# EAGLE library part A-UNO (library digital-toy)
Arduino/Genuino Uno
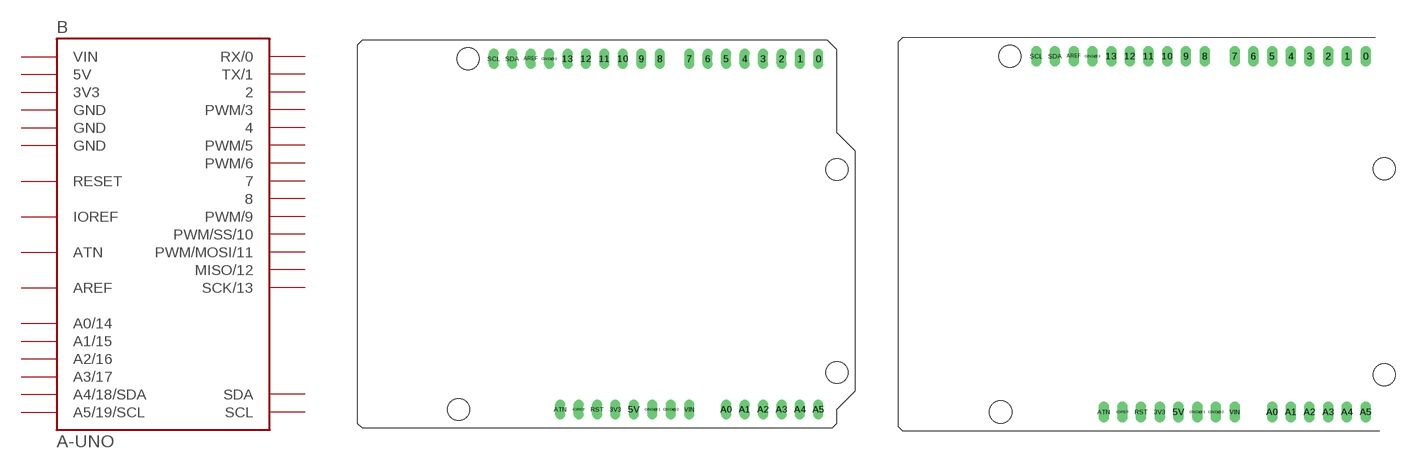
[diagram p49: symbol with the pads of A-UNO; footprints A-UNO, A-UNO_LEFT]

Designator prefix B

## A-UNO  [A-UNO]
0  RX/0
1  TX/1
2  2
3  PWM/3
3V3  3V3  pwr
4  4
5  PWM/5
5V  5V  pwr
6  PWM/6
7  7
8  8
9  PWM/9
10  PWM/SS/10
11  PWM/MOSI/11
12  MISO/12
13  SCK/13
A0  A0/14
A1  A1/15
A2  A2/16
A3  A3/17
A4  A4/18/SDA
A5  A5/19/SCL
AREF  AREF  pwr
ATN  ATN
GND@1  GND  pwr
GND@2  GND  pwr
GND@3  GND  pwr
IOREF  IOREF  pwr
RST  RESET
SCL  SCL
SDA  SDA
VIN  VIN  pwr

## A-UNO-L  [A-UNO_LEFT]
Pads as for A-UNO

## A-UNO-TP  [A-UNO_TP]
Pads as for A-UNO

## A-UNO-CON  [A-UNO_CON]
Pads as for A-UNO

## Footprint A-UNO (pad centres in mm)
20 Dimension
drill 0.9 pad 1.2 long: 0 63.5,50.8; 1 60.96,50.8; 2 58.42,50.8; 3 55.88,50.8; 3V3 35.56,2.54; 4 53.34,50.8; 5 50.8,50.8; 5V 38.1,2.54; 6 48.26,50.8; 7 45.72,50.8; 8 41.656,50.8; 9 39.116,50.8; 10 36.576,50.8; 11 34.036,50.8; 12 31.496,50.8; 13 28.956,50.8; A0 50.8,2.54; A1 53.34,2.54; A2 55.88,2.54; A3 58.42,2.54; A4 60.96,2.54; A5 63.5,2.54; AREF 23.876,50.8; ATN 27.94,2.54; GND@1 40.64,2.54; GND@2 43.18,2.54; GND@3 26.416,50.8; IOREF 30.48,2.54; RST 33.02,2.54; SCL 18.796,50.8; SDA 21.336,50.8; VIN 45.72,2.54
hole 3 at 66.04,35.56
hole 3 at 66.04,7.62
hole 3 at 15.24,50.8
hole 3 at 13.97,2.54

## Footprint A-UNO_LEFT (pad centres in mm)
20 Dimension on the left
drill 0.9 pad 1.2 long: 0 63.5,50.8; 1 60.96,50.8; 2 58.42,50.8; 3 55.88,50.8; 3V3 35.56,2.54; 4 53.34,50.8; 5 50.8,50.8; 5V 38.1,2.54; 6 48.26,50.8; 7 45.72,50.8; 8 41.656,50.8; 9 39.116,50.8; 10 36.576,50.8; 11 34.036,50.8; 12 31.496,50.8; 13 28.956,50.8; A0 50.8,2.54; A1 53.34,2.54; A2 55.88,2.54; A3 58.42,2.54; A4 60.96,2.54; A5 63.5,2.54; AREF 23.876,50.8; ATN 27.94,2.54; GND@1 40.64,2.54; GND@2 43.18,2.54; GND@3 26.416,50.8; IOREF 30.48,2.54; RST 33.02,2.54; SCL 18.796,50.8; SDA 21.336,50.8; VIN 45.72,2.54
hole 3 at 66.04,35.56
hole 3 at 66.04,7.62
hole 3 at 15.24,50.8
hole 3 at 13.97,2.54

## Footprint A-UNO_TP (pad centres in mm)
21 tPlace
drill 0.9 pad 1.2 long: 0 63.5,50.8; 1 60.96,50.8; 2 58.42,50.8; 3 55.88,50.8; 3V3 35.56,2.54; 4 53.34,50.8; 5 50.8,50.8; 5V 38.1,2.54; 6 48.26,50.8; 7 45.72,50.8; 8 41.656,50.8; 9 39.116,50.8; 10 36.576,50.8; 11 34.036,50.8; 12 31.496,50.8; 13 28.956,50.8; A0 50.8,2.54; A1 53.34,2.54; A2 55.88,2.54; A3 58.42,2.54; A4 60.96,2.54; A5 63.5,2.54; AREF 23.876,50.8; ATN 27.94,2.54; GND@1 40.64,2.54; GND@2 43.18,2.54; GND@3 26.416,50.8; IOREF 30.48,2.54; RST 33.02,2.54; SCL 18.796,50.8; SDA 21.336,50.8; VIN 45.72,2.54

## Footprint A-UNO_CON (pad centres in mm)
only connectors
drill 0.9 pad 1.5: 0 63.5,50.8; 1 60.96,50.8; 2 58.42,50.8; 3 55.88,50.8; 3V3 35.56,2.54; 4 53.34,50.8; 5 50.8,50.8; 5V 38.1,2.54; 6 48.26,50.8; 7 45.72,50.8; 8 41.656,50.8; 9 39.116,50.8; 10 36.576,50.8; 11 34.036,50.8; 12 31.496,50.8; 13 28.956,50.8; A0 50.8,2.54; A1 53.34,2.54; A2 55.88,2.54; A3 58.42,2.54; A4 60.96,2.54; A5 63.5,2.54; AREF 23.876,50.8; ATN 27.94,2.54; GND@1 40.64,2.54; GND@2 43.18,2.54; GND@3 26.416,50.8; IOREF 30.48,2.54; RST 33.02,2.54; SCL 18.796,50.8; SDA 21.336,50.8; VIN 45.72,2.54
hole 3 at 66.04,35.56
hole 3 at 66.04,7.62
hole 3 at 15.24,50.8
hole 3 at 13.97,2.54